# EAGLE library part HFD3/* (library mylib)
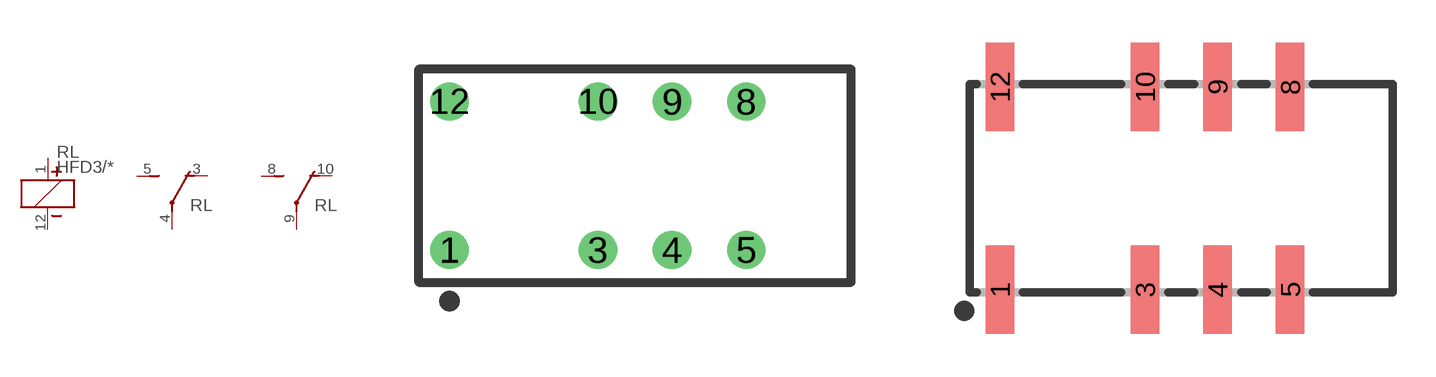
[diagram p136: symbol with the pads of G6S-2; footprints G6S-2, HFD3-S]

Designator prefix RL; gates G$1=RELAY-COIL-POL G$2=PART-RELAY-SW G$3=PART-RELAY-SW

## HFD3/5 (RS: 176-2708)  [G6S-2]
1  G$1:1  pas
3  G$2:NC  pas
4  G$2:COM  pas
5  G$2:NO  pas
8  G$3:NO  pas
9  G$3:COM  pas
10  G$3:NC  pas
12  G$1:2  pas

## HFD3/5-S  [HFD3-S]
Pads as for G6S-2

## Footprint G6S-2 (pad centres in mm)
drill 0.8 pad 1.27: 1 -6.35,-2.54; 3 -1.27,-2.54; 4 1.27,-2.54; 5 3.81,-2.54; 8 3.81,2.54; 9 1.27,2.54; 10 -1.27,2.54; 12 -6.35,2.54

## Footprint HFD3-S (pad centres in mm)
smd 1 x 3.1: 1 -6.35,-3.55; 3 -1.27,-3.55; 4 1.27,-3.55; 5 3.81,-3.55; 8 3.81,3.55; 9 1.27,3.55; 10 -1.27,3.55; 12 -6.35,3.55